# Altium schematic symbol library XP_6P.Schlib: 1 symbol
Pins are listed as number, name and electrical type; pins without a type are passive.

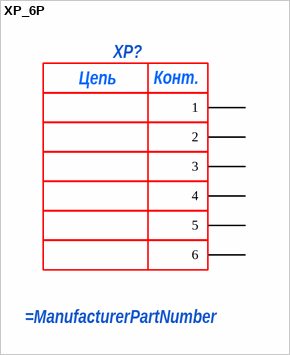
[diagram p0: symbol XP_6P]

## XP_6P
designator XP?
pins: 1, 2, 3, 4, 5, 6
text: Цепь; Конт.